# Altium footprint library LARS_409_CONNECTORS.PCBLIB: 109 footprints (part 6 of 7)
Each footprint in its own frame and in the unit in brackets; x right, y up, seen from the top. Pads: shape width x height; smd on the part's side, far side on the other; paste and mask are expansions set on the pad; w line width, h text height; cw(c..) or ccw(c..) is an arc to the next point about the centre after c.
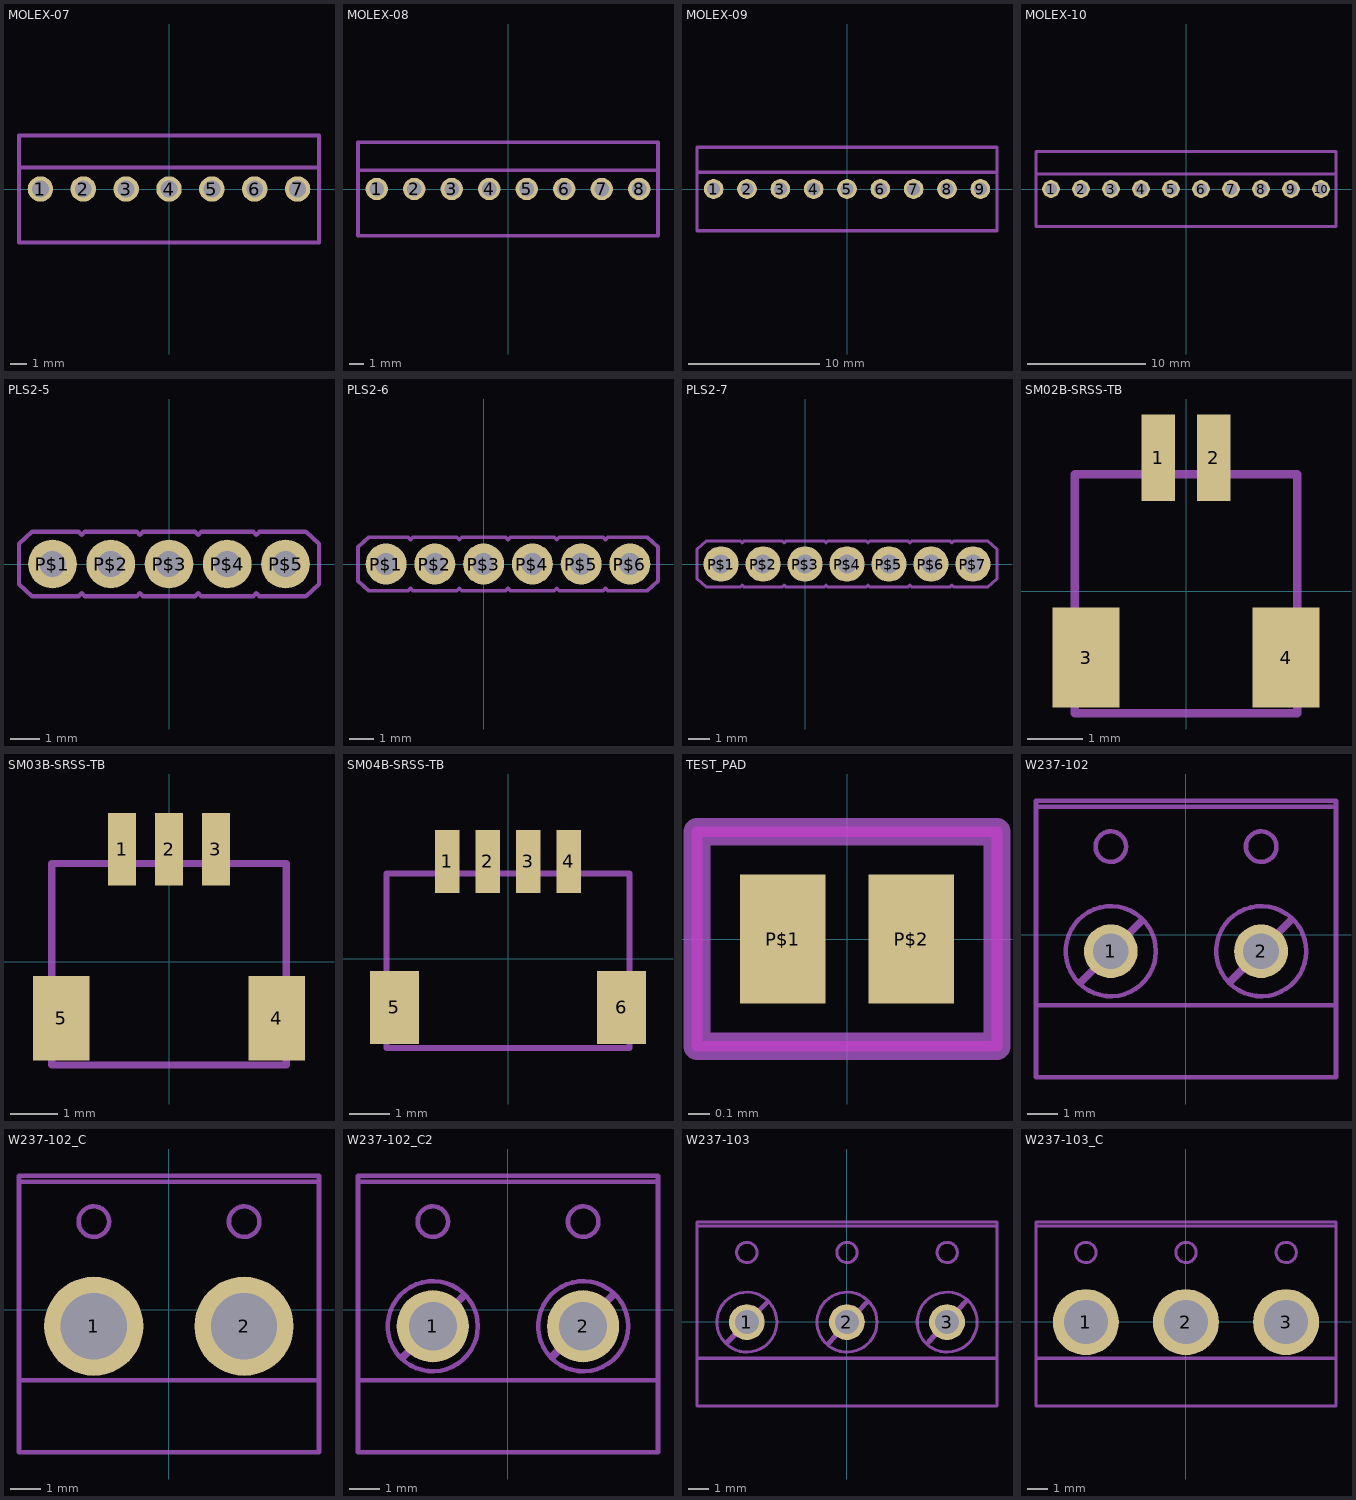
[diagram p5: the footprints below, top view; thin cyan lines are the x and y axes]

## MOLEX-07 [mm]
pads (7):
  round 1.508 hole 1: 1(-7.62,0) 2(-5.08,0) 3(-2.54,0) 4(0,0) 5(2.54,0) 6(5.08,0) 7(7.62,0)
tPlace:
  lines w0.254: -8.89,1.27 8.89,1.27 ; -8.89,1.27 -8.89,3.175 8.89,3.175 8.89,1.27 ; -8.89,1.27 -8.89,-3.175 8.89,-3.175 8.89,1.27

## MOLEX-08 [mm]
pads (8):
  round 1.508 hole 1: 1(-8.89,0) 2(-6.35,0) 3(-3.81,0) 4(-1.27,0) 5(1.27,0) 6(3.81,0) 7(6.35,0) 8(8.89,0)
tPlace:
  lines w0.254: -10.16,1.27 10.16,1.27 ; -10.16,1.27 -10.16,3.175 10.16,3.175 10.16,1.27 ; -10.16,1.27 -10.16,-3.175 10.16,-3.175 10.16,1.27

## MOLEX-09 [mm]
pads (9):
  round 1.508 hole 1: 1(-10.16,0) 2(-7.62,0) 3(-5.08,0) 4(-2.54,0) 5(0,0) 6(2.54,0) 7(5.08,0) 8(7.62,0) 9(10.16,0)
tPlace:
  lines w0.254: -11.43,1.27 11.43,1.27 ; -11.43,1.27 -11.43,3.175 11.43,3.175 11.43,1.27 ; -11.43,1.27 -11.43,-3.175 11.43,-3.175 11.43,1.27

## MOLEX-10 [mm]
pads (10):
  round 1.508 hole 1: 1(-11.43,0) 2(-8.89,0) 3(-6.35,0) 4(-3.81,0) 5(-1.27,0) 6(1.27,0) 7(3.81,0) 8(6.35,0) 9(8.89,0) 10(11.43,0)
tPlace:
  lines w0.254: -12.7,1.27 12.7,1.27 ; -12.7,1.27 -12.7,3.175 12.7,3.175 12.7,1.27 ; -12.7,1.27 -12.7,-3.175 12.7,-3.175 12.7,1.27

## PLS2-5 [mil]
pads (5):
  round 66 hole 35.43: P$1(-157.48,0) P$2(-78.74,0) P$3(0,0) P$4(78.74,0) P$5(157.48,0)
tPlace:
  lines w6: -202.76,-27.56 -202.76,27.56 -185.04,43.31 -122.05,43.31 -118.11,39.37 -114.17,43.31 -43.31,43.31 -39.37,39.37 -35.43,43.31 35.43,43.31 39.37,39.37 43.31,43.31 114.17,43.31 118.11,39.37 122.05,43.31 185.04,43.31 202.76,27.56 202.76,-27.56 185.04,-43.31 122.05,-43.31 118.11,-39.37 114.17,-43.31 43.31,-43.31 39.37,-39.37 35.43,-43.31 -35.43,-43.31 -39.37,-39.37 -43.31,-43.31 -114.17,-43.31 -118.11,-39.37 -122.05,-43.31 -185.04,-43.31 -202.76,-27.56

## PLS2-6 [mil]
pads (6):
  round 66 hole 35.43: P$1(-157.48,0) P$2(-78.74,0) P$3(0,0) P$4(78.74,0) P$5(157.48,0) P$6(236.22,0)
tPlace:
  lines w6: -202.76,-27.56 -185.04,-43.31 -122.05,-43.31 -118.11,-39.37 -114.17,-43.31 -43.31,-43.31 -39.37,-39.37 -35.43,-43.31 35.43,-43.31 39.37,-39.37 43.31,-43.31 114.17,-43.31 118.11,-39.37 122.05,-43.31 192.91,-43.31 196.85,-39.37 200.79,-43.31 263.78,-43.31 281.5,-27.56 281.5,27.56 263.78,43.31 200.79,43.31 196.85,39.37 192.91,43.31 122.05,43.31 118.11,39.37 114.17,43.31 43.31,43.31 39.37,39.37 35.43,43.31 -35.43,43.31 -39.37,39.37 -43.31,43.31 -114.17,43.31 -118.11,39.37 -122.05,43.31 -185.04,43.31 -202.76,27.56 -202.76,-27.56

## PLS2-7 [mil]
pads (7):
  round 66 hole 35.43: P$1(-157.48,0) P$2(-78.74,0) P$3(0,0) P$4(78.74,0) P$5(157.48,0) P$6(236.22,0) P$7(314.96,0)
tPlace:
  lines w6: -202.76,-27.56 -202.76,27.56 -185.04,43.31 -122.05,43.31 -118.11,39.37 -114.17,43.31 -43.31,43.31 -39.37,39.37 -35.43,43.31 35.43,43.31 39.37,39.37 43.31,43.31 114.17,43.31 118.11,39.37 122.05,43.31 192.91,43.31 196.85,39.37 200.79,43.31 271.65,43.31 275.59,39.37 279.53,43.31 342.52,43.31 360.24,27.56 360.24,-27.56 342.52,-43.31 279.53,-43.31 275.59,-39.37 271.65,-43.31 200.79,-43.31 196.85,-39.37 192.91,-43.31 122.05,-43.31 118.11,-39.37 114.17,-43.31 43.31,-43.31 39.37,-39.37 35.43,-43.31 -35.43,-43.31 -39.37,-39.37 -43.31,-43.31 -114.17,-43.31 -118.11,-39.37 -122.05,-43.31 -185.04,-43.31 -202.76,-27.56

## SM02B-SRSS-TB [mil]
pads (4):
  rect 23.62x61.02 smd: 1(-19.69,94.49) 2(19.69,94.49)
  rect 47.24x70.87 smd: 3(-70.87,-47.24) 4(70.87,-47.24)
tPlace:
  lines w6: -78.74,-86.61 78.74,-86.61 78.74,82.68 -78.74,82.68 -78.74,-86.61

## SM03B-SRSS-TB [mm]
pads (5):
  rect 0.6x1.55 smd: 1(-1,2.4) 2(0,2.4) 3(1,2.4)
  rect 1.2x1.8 smd: 4(2.3,-1.2) 5(-2.3,-1.2)
tPlace:
  lines w0.152: -2.5,-2.2 -2.5,2.1 2.5,2.1 2.5,-2.2 -2.5,-2.2

## SM04B-SRSS-TB [mil]
pads (6):
  rect 23.62x61.02 smd: 1(-59.06,94.49) 2(-19.69,94.49) 3(19.69,94.49) 4(59.06,94.49)
  rect 47.24x70.87 smd: 5(-110.24,-47.24) 6(110.24,-47.24)
tPlace:
  lines w6: -118.11,-86.61 -118.11,82.68 118.11,82.68 118.11,-86.61 -118.11,-86.61

## TEST_PAD [mil]
pads (2):
  rect 15.75x23.62 smd: P$1(-11.81,0) P$2(11.81,0)
Top keep-out:
  lines w1.97: -27.56,-19.69 27.56,-19.69 27.56,19.69 -27.56,19.69 -27.56,-19.69
tPlace:
  lines w5: -27.56,-19.69 -27.56,19.69 27.56,19.69 27.56,-19.69 -27.56,-19.69

## W237-102 [mil]
pads (2):
  round 70.5 hole 47: 1(-98.43,-21.26) 2(98.43,-21.26)
tDocu:
  circle w6: c98.57,-21.26 r59
  circle w6: c-98.43,-21.26 r59
  lines w6: -133.43,-92.24 -63.43,-92.24 ; 63.58,-92.24 133.58,-92.24
  lines w10: -137.44,-61.26 -58.43,17.76 ; 58.58,-60.28 136.57,18.74
tPlace:
  circle w6: c98.57,115.74 r20
  circle w6: c-98.43,115.74 r20
  lines w6: -133.43,-92.24 -196.42,-92.24 ; -63.43,-92.24 63.58,-92.24 ; 133.58,-92.24 196.57,-92.24 ; -196.42,-92.24 -196.42,167.76 ; -196.42,-92.24 -196.42,-186.26 196.57,-186.26 196.57,-92.24 ; -196.42,167.76 -196.42,175.75 196.57,175.75 196.57,167.76 ; -196.42,167.76 196.57,167.76 ; 196.57,-92.24 196.57,167.76
  text "2" at 16.57,53.74 h77.5
  text "1" at -178.43,53.74 h77.5

## W237-102_C [mm]
pads (2):
  round 3.3 hole 2.2: 1(-2.5,-0.54) 2(2.5,-0.54)
tDocu:
  circle w0.152: c2.504,-0.54 r1.499
  circle w0.152: c-2.5,-0.54 r1.499
  lines w0.152: -3.389,-2.343 -1.611,-2.343 ; 1.615,-2.343 3.393,-2.343
  lines w0.254: -3.491,-1.556 -1.484,0.451 ; 1.488,-1.531 3.469,0.476
tPlace:
  circle w0.152: c2.504,2.94 r0.508
  circle w0.152: c-2.5,2.94 r0.508
  lines w0.152: -3.389,-2.343 -4.989,-2.343 ; -1.611,-2.343 1.615,-2.343 ; 3.393,-2.343 4.993,-2.343 ; -4.989,-2.343 -4.989,4.261 ; -4.989,-2.343 -4.989,-4.731 4.993,-4.731 4.993,-2.343 ; -4.989,4.261 -4.989,4.464 4.993,4.464 4.993,4.261 ; -4.989,4.261 4.993,4.261 ; 4.993,-2.343 4.993,4.261
  text "2" at 0.421,1.365 h1.97
  text "1" at -4.532,1.365 h1.97

## W237-102_C2 [mm]
pads (2):
  round 2.4 hole 1.6: 1(-2.5,-0.54) 2(2.5,-0.54)
tDocu:
  circle w0.152: c2.504,-0.54 r1.499
  circle w0.152: c-2.5,-0.54 r1.499
  lines w0.152: -3.389,-2.343 -1.611,-2.343 ; 1.615,-2.343 3.393,-2.343
  lines w0.254: -3.491,-1.556 -1.484,0.451 ; 1.488,-1.531 3.469,0.476
tPlace:
  circle w0.152: c2.504,2.94 r0.508
  circle w0.152: c-2.5,2.94 r0.508
  lines w0.152: -3.389,-2.343 -4.989,-2.343 ; -1.611,-2.343 1.615,-2.343 ; 3.393,-2.343 4.993,-2.343 ; -4.989,-2.343 -4.989,4.261 ; -4.989,-2.343 -4.989,-4.731 4.993,-4.731 4.993,-2.343 ; -4.989,4.261 -4.989,4.464 4.993,4.464 4.993,4.261 ; -4.989,4.261 4.993,4.261 ; 4.993,-2.343 4.993,4.261
  text "2" at 0.421,1.365 h1.97
  text "1" at -4.532,1.365 h1.97

## W237-103 [mil]
pads (3):
  round 70.5 hole 47: 1(-196.85,-0.79) 2(0,-0.79) 3(196.85,-0.79)
tDocu:
  circle w6: c0.15,-0.79 r59
  circle w6: c197.15,-0.79 r59
  circle w6: c-196.85,-0.79 r59
  lines w6: -231.85,-71.77 -161.85,-71.77 ; -34.84,-71.77 35.16,-71.77 ; 162.17,-71.77 232.17,-71.77
  lines w10: -235.87,-40.79 -156.85,38.23 ; -35.87,-41.77 39.13,38.23 ; 161.14,-38.78 232.17,38.23
  text "3" at 124.15,74.21 h77.5
  text "2" at -72.85,72.21 h77.5
  text "1" at -271.85,74.21 h77.5
tPlace:
  circle w6: c0.15,136.21 r20
  circle w6: c197.15,136.21 r20
  circle w6: c-196.85,136.21 r20
  lines w6: -231.85,-71.77 -294.84,-71.77 ; -161.85,-71.77 -34.84,-71.77 ; 35.16,-71.77 162.17,-71.77 ; 232.17,-71.77 295.16,-71.77 ; -294.84,-71.77 -294.84,188.23 ; -294.84,-71.77 -294.84,-165.79 295.16,-165.79 295.16,-71.77 ; -294.84,188.23 -294.84,196.22 295.16,196.22 295.16,188.23 ; -294.84,188.23 295.16,188.23 ; 295.16,-71.77 295.16,188.23

## W237-103_C [mm]
pads (3):
  round 3.3 hole 2.2: 1(-5,-0.02) 2(0,-0.02) 3(5,-0.02)
tDocu:
  circle w0.152: c0.004,-0.02 r1.499
  circle w0.152: c5.008,-0.02 r1.499
  circle w0.152: c-5,-0.02 r1.499
  lines w0.152: -5.889,-1.823 -4.111,-1.823 ; -0.885,-1.823 0.893,-1.823 ; 4.119,-1.823 5.897,-1.823
  lines w0.254: -5.991,-1.036 -3.984,0.971 ; -0.911,-1.061 0.994,0.971 ; 4.093,-0.985 5.897,0.971
  text "3" at 3.153,1.885 h1.97
  text "2" at -1.85,1.834 h1.97
  text "1" at -6.905,1.885 h1.97
tPlace:
  circle w0.152: c0.004,3.46 r0.508
  circle w0.152: c5.008,3.46 r0.508
  circle w0.152: c-5,3.46 r0.508
  lines w0.152: -5.889,-1.823 -7.489,-1.823 ; -4.111,-1.823 -0.885,-1.823 ; 0.893,-1.823 4.119,-1.823 ; 5.897,-1.823 7.497,-1.823 ; -7.489,-1.823 -7.489,4.781 ; -7.489,-1.823 -7.489,-4.211 7.497,-4.211 7.497,-1.823 ; -7.489,4.781 -7.489,4.984 7.497,4.984 7.497,4.781 ; -7.489,4.781 7.497,4.781 ; 7.497,-1.823 7.497,4.781